# EAGLE library part ADD8704 (library analog-devices)
16 V Quad Operational Amplifier Source: Ananlog Devices .. 780914713ADD8704_0.pdf
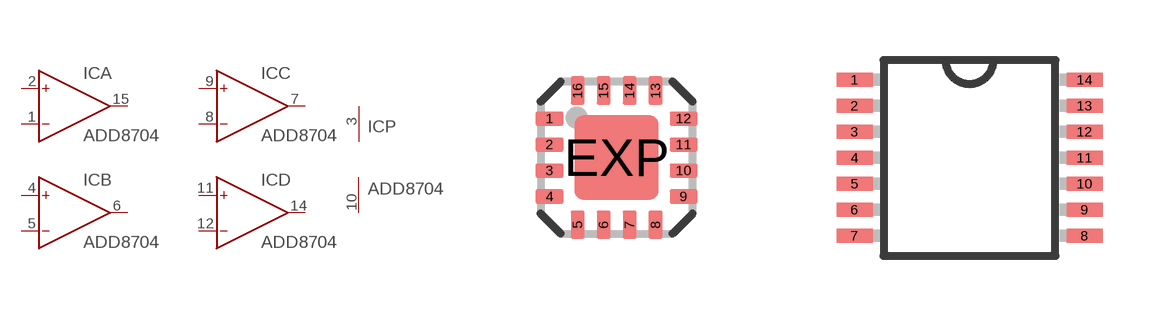
[diagram p83: symbol with the pads of LFCSP16; footprints LFCSP16, TSSOP14]

Designator prefix IC; gates A=OP B=OP C=OP D=OP P=PWR+-

## ADD8704CP (MF: ALTERA CORPORATION; MPN: ADD8704ACPZ-REEL7; OC_FARNELL: unknown; OC_NEWARK: 59K0961)  [LFCSP16]
1  A:IN-  in
2  A:IN+  in
3  P:V+  pwr
4  B:IN+  in
5  B:IN-  in
6  B:OUT  out
7  C:OUT  out
8  C:IN-  in
9  C:IN+  in
10  P:V-  pwr
11  D:IN+  in
12  D:IN-  in
14  D:OUT  out
15  A:OUT  out

## ADD8704RU (MF: ALTERA CORPORATION; MPN: ADD8704ARUZ-REEL; OC_FARNELL: unknown; OC_NEWARK: 59K0964)  [TSSOP14]
1  A:OUT  out
2  A:IN-  in
3  A:IN+  in
4  P:V+  pwr
5  B:IN+  in
6  B:IN-  in
7  B:OUT  out
8  C:OUT  out
9  C:IN-  in
10  C:IN+  in
11  P:V-  pwr
12  D:IN+  in
13  D:IN-  in
14  D:OUT  out

## Footprint LFCSP16 (pad centres in mm)
16-Terminal Leadless Frame Chip Scale Package [LFCSP] (CP) Source: Analog Devices .. 780914713ADD8704_0.pdf
smd 0.7 x 0.35: 1 -1.675,0.975; 2 -1.675,0.325; 3 -1.675,-0.325; 4 -1.675,-0.975; 9 1.675,-0.975; 10 1.675,-0.325; 11 1.675,0.325; 12 1.675,0.975
smd 0.35 x 0.7: 5 -0.975,-1.675; 6 -0.325,-1.675; 7 0.325,-1.675; 8 0.975,-1.675; 13 0.975,1.675; 14 0.325,1.675; 15 -0.325,1.675; 16 -0.975,1.675
smd 2.1 x 2.1: EXP 0,0

## Footprint TSSOP14 (pad centres in mm)
14-Lead Thin Shrink Small Outline Package [TSSOP] Source: Analog Devices .. 780914713ADD8704_0.pdf
smd 0.9 x 0.35: 1 -2.875,1.95; 2 -2.875,1.3; 3 -2.875,0.65; 4 -2.875,0; 5 -2.875,-0.65; 6 -2.875,-1.3; 7 -2.875,-1.95; 8 2.875,-1.95; 9 2.875,-1.3; 10 2.875,-0.65; 11 2.875,0; 12 2.875,0.65; 13 2.875,1.3; 14 2.875,1.95